# Altium footprint library Footprints.PcbLib: 111 footprints (part 3 of 7)
Each footprint in its own frame and in the unit in brackets; x right, y up, seen from the top. Pads: shape width x height; smd on the part's side, far side on the other; paste and mask are expansions set on the pad; w line width, h text height; cw(c..) or ccw(c..) is an arc to the next point about the centre after c.
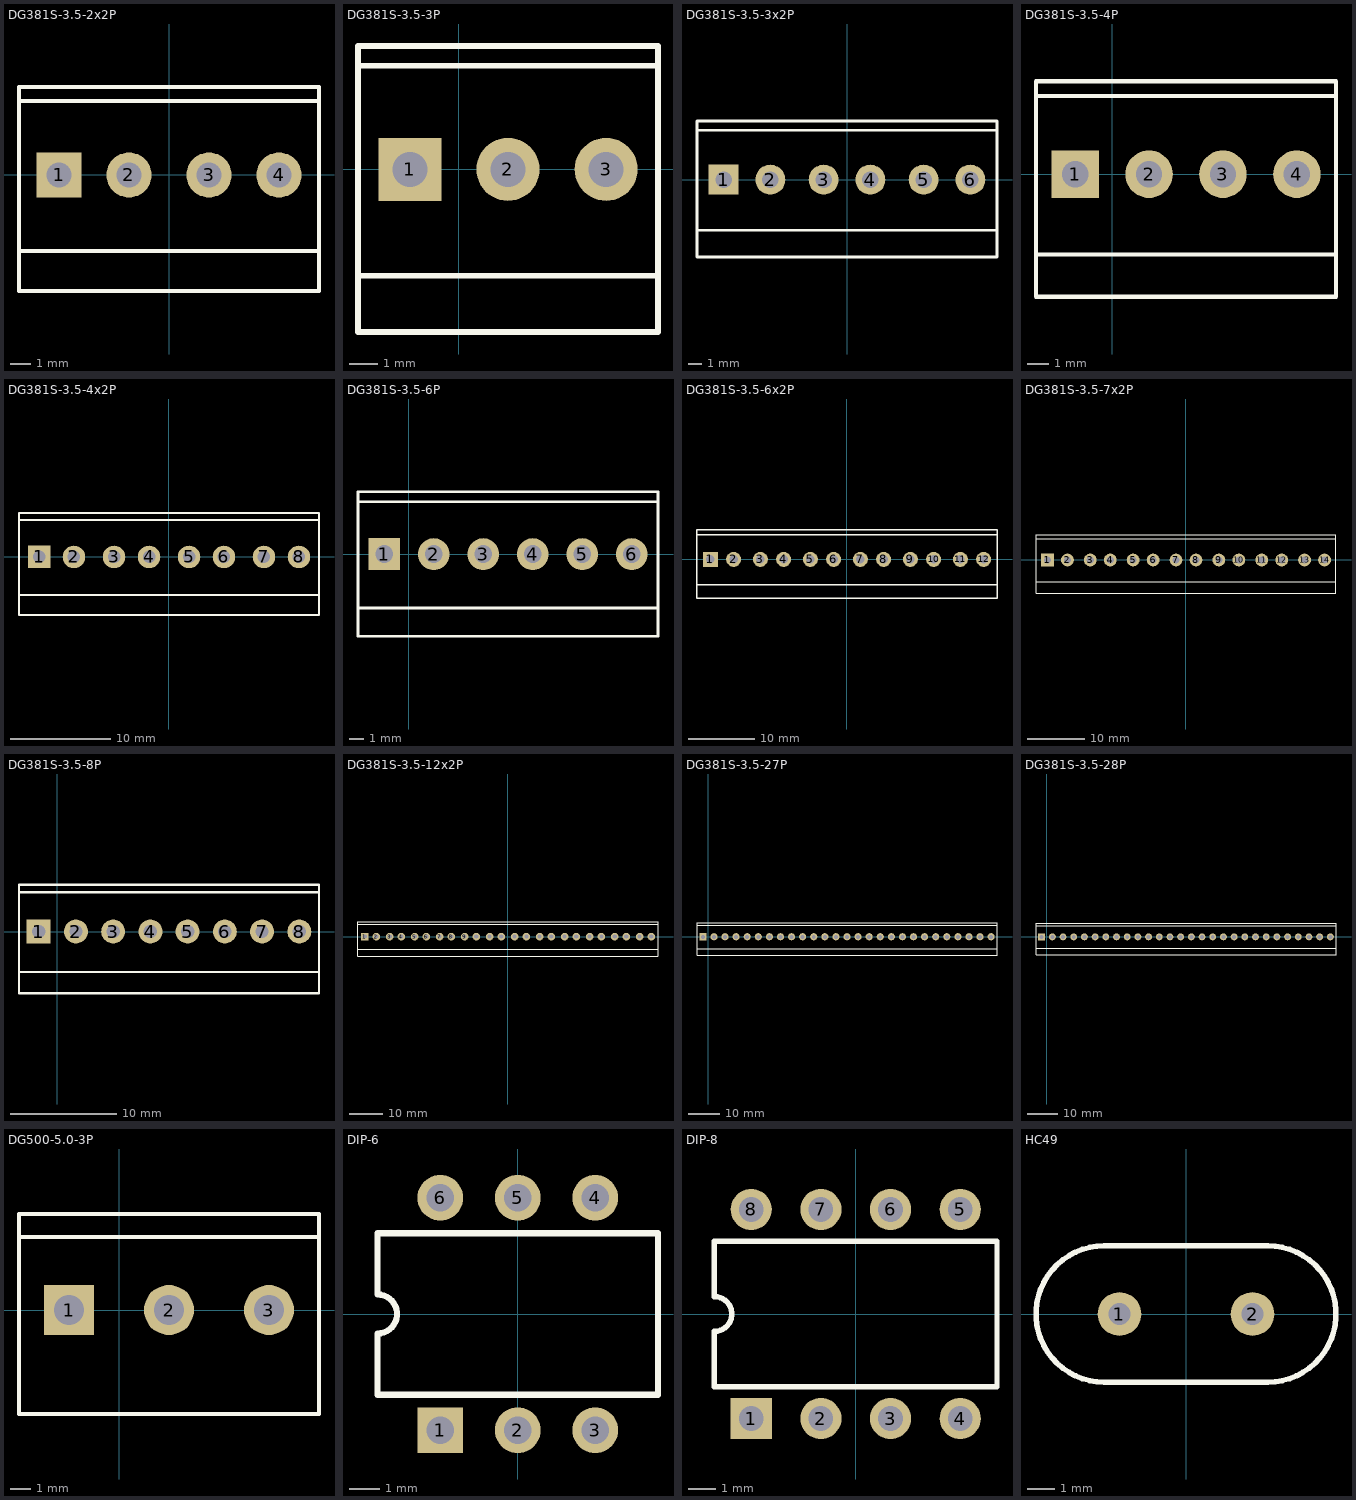
[diagram p2: the footprints below, top view; thin cyan lines are the x and y axes]

## DG381S-3.5-2x2P [mm] "Terminal block; Step 3.5"
height 9.5
pads (4):
  rect 2.25x2.25 hole 1.25: 1(-5.5,0)
  round 2.25 hole 1.25: 2(-2,0) 3(2,0) 4(5.5,0)
Top Overlay:
  lines w0.2: -7.5,-3.8 7.5,-3.8 ; -7.5,3.7 7.5,3.7 ; -7.5,-5.8 -7.5,4.4 7.5,4.4 7.5,-5.8 -7.5,-5.8
3D body: height 9.5, standoff 0, extent -7.5,-5.8 7.5,4.4

## DG381S-3.5-3P [mm] "Terminal block; Step 3.5"
height 9.5
pads (3):
  rect 2.25x2.25 hole 1.25: 1(-1.75,0)
  round 2.25 hole 1.25: 2(1.75,0) 3(5.25,0)
Top Overlay:
  lines w0.2: -3.6,-3.8 7.1,-3.8 ; -3.6,3.7 7.1,3.7 ; -3.6,-5.8 7.1,-5.8 7.1,4.4 -3.6,4.4 -3.6,-5.8
3D body: height 9.5, standoff 0, extent -3.5,-5.8 7.1,4.4

## DG381S-3.5-3x2P [mm] "Terminal block; Step 3.5"
height 9.5
pads (6):
  rect 2.25x2.25 hole 1.25: 1(-9.25,0)
  round 2.25 hole 1.25: 2(-5.75,0) 3(-1.75,0) 4(1.75,0) 5(5.75,0) 6(9.25,0)
Top Overlay:
  lines w0.2: -11.25,-3.8 11.25,-3.8 ; -11.25,3.7 11.25,3.7 ; -11.25,-5.8 11.25,-5.8 11.25,4.4 -11.25,4.4 -11.25,-5.8
3D body: height 9.5, standoff 0, extent -11.25,-5.8 11.25,4.4

## DG381S-3.5-4P [mm] "Terminal block; Step 3.5"
height 9.5
pads (4):
  rect 2.25x2.25 hole 1.25: 1(-1.75,0)
  round 2.25 hole 1.25: 2(1.75,0) 3(5.25,0) 4(8.75,0)
Top Overlay:
  lines w0.2: -3.6,-3.8 10.6,-3.8 ; -3.6,3.7 10.6,3.7 ; -3.6,-5.8 -3.6,4.4 10.6,4.4 10.6,-5.8 -3.6,-5.8
3D body: height 9.5, standoff 0, extent -3.5,-5.8 10.6,4.4

## DG381S-3.5-4x2P [mm] "Terminal block; Step 3.5"
height 9.5
pads (8):
  rect 2.25x2.25 hole 1.25: 1(-13,0)
  round 2.25 hole 1.25: 2(-9.5,0) 3(-5.5,0) 4(-2,0) 5(2,0) 6(5.5,0) 7(9.5,0) 8(13,0)
Top Overlay:
  lines w0.2: -15,-3.8 15,-3.8 ; -15,3.7 15,3.7 ; -15,-5.8 15,-5.8 15,4.4 -15,4.4 -15,-5.8
3D body: height 9.5, standoff 0, extent -15,-5.8 15,4.4

## DG381S-3.5-6P [mm] "Terminal block; Step 3.5"
height 9.5
pads (6):
  rect 2.25x2.25 hole 1.25: 1(-1.75,0)
  round 2.25 hole 1.25: 2(1.75,0) 3(5.25,0) 4(8.75,0) 5(12.25,0) 6(15.75,0)
Top Overlay:
  lines w0.2: -3.6,-3.8 17.6,-3.8 ; -3.6,3.7 17.6,3.7 ; -3.6,-5.8 17.6,-5.8 17.6,4.4 -3.6,4.4 -3.6,-5.8
3D body: height 9.5, standoff 0, extent -3.5,-5.8 17.6,4.4

## DG381S-3.5-6x2P [mm] "Terminal block; Step 3.5"
height 9.5
pads (12):
  rect 2.25x2.25 hole 1.25: 1(-20.5,0)
  round 2.25 hole 1.25: 2(-17,0) 3(-13,0) 4(-9.5,0) 5(-5.5,0) 6(-2,0) 7(2,0) 8(5.5,0) 9(9.5,0) 10(13,0) 11(17,0) 12(20.5,0)
Top Overlay:
  lines w0.2: -22.5,-3.8 22.5,-3.8 ; -22.5,3.7 22.5,3.7 ; -22.5,-5.8 22.5,-5.8 22.5,4.4 -22.5,4.4 -22.5,-5.8
3D body: height 9.5, standoff 0, extent -22.5,-5.8 22.5,4.4

## DG381S-3.5-7x2P [mm] "Terminal block; Step 3.5"
height 9.5
pads (14):
  rect 2.25x2.25 hole 1.25: 1(-24.25,0)
  round 2.25 hole 1.25: 2(-20.75,0) 3(-16.75,0) 4(-13.25,0) 5(-9.25,0) 6(-5.75,0) 7(-1.75,0) 8(1.75,0) 9(5.75,0) 10(9.25,0) 11(13.25,0) 12(16.75,0) 13(20.75,0) 14(24.25,0)
Top Overlay:
  lines w0.2: -26.25,-3.8 26.25,-3.8 ; -26.25,3.7 26.25,3.7 ; -26.25,-5.8 -26.25,4.4 26.25,4.4 26.25,-5.8 -26.25,-5.8
3D body: height 9.5, standoff 0, extent -26.25,-5.8 26.25,4.4

## DG381S-3.5-8P [mm] "Terminal block; Step 3.5"
height 9.5
pads (8):
  rect 2.25x2.25 hole 1.25: 1(-1.75,0)
  round 2.25 hole 1.25: 2(1.75,0) 3(5.25,0) 4(8.75,0) 5(12.25,0) 6(15.75,0) 7(19.25,0) 8(22.75,0)
Top Overlay:
  lines w0.2: -3.6,-3.8 24.6,-3.8 ; -3.6,3.7 24.6,3.7 ; -3.6,-5.8 -3.6,4.4 24.6,4.4 24.6,-5.8 -3.6,-5.8
3D body: height 9.5, standoff 0, extent -3.5,-5.8 24.6,4.4

## DG381S-3.5-12x2P [mm] "Terminal block; Step 3.5"
height 9.5
pads (24):
  rect 2.25x2.25 hole 1.25: 1(-43,0)
  round 2.25 hole 1.25: 2(-39.5,0) 3(-35.5,0) 4(-32,0) 5(-28,0) 6(-24.5,0) 7(-20.5,0) 8(-17,0) 9(-13,0) 10(-9.5,0) 11(-5.5,0) 12(-2,0) 13(2,0) 14(5.5,0) 15(9.5,0) 16(13,0) 17(17,0) 18(20.5,0) 19(24.5,0) 20(28,0) 21(32,0) 22(35.5,0) 23(39.5,0) 24(43,0)
Top Overlay:
  lines w0.2: -45,-3.8 45,-3.8 ; -45,3.7 45,3.7 ; -45,-5.8 -45,4.4 45,4.4 45,-5.8 -45,-5.8
3D body: height 9.5, standoff 0, extent -45,-5.8 45,4.4

## DG381S-3.5-27P [mm] "Terminal block; Step 3.5"
height 9.5
pads (27):
  rect 2.25x2.25 hole 1.25: 1(-1.75,0)
  round 2.25 hole 1.25: 2(1.75,0) 3(5.25,0) 4(8.75,0) 5(12.25,0) 6(15.75,0) 7(19.25,0) 8(22.75,0) 9(26.25,0) 10(29.75,0) 11(33.25,0) 12(36.75,0) 13(40.25,0) 14(43.75,0) 15(47.25,0) 16(50.75,0) 17(54.25,0) 18(57.75,0) 19(61.25,0) 20(64.75,0) 21(68.25,0) 22(71.75,0) 23(75.25,0) 24(78.75,0) 25(82.25,0) 26(85.75,0) 27(89.25,0)
Top Overlay:
  lines w0.2: -3.6,-3.8 91.1,-3.8 ; -3.6,3.7 91.1,3.7 ; -3.6,-5.8 -3.6,4.4 91.1,4.4 91.1,-5.8 -3.6,-5.8
3D body: height 9.5, standoff 0, extent -3.5,-5.8 91.1,4.4

## DG381S-3.5-28P [mm] "Terminal block; Step 3.5"
height 9.5
pads (28):
  rect 2.25x2.25 hole 1.25: 1(-1.75,0)
  round 2.25 hole 1.25: 2(1.75,0) 3(5.25,0) 4(8.75,0) 5(12.25,0) 6(15.75,0) 7(19.25,0) 8(22.75,0) 9(26.25,0) 10(29.75,0) 11(33.25,0) 12(36.75,0) 13(40.25,0) 14(43.75,0) 15(47.25,0) 16(50.75,0) 17(54.25,0) 18(57.75,0) 19(61.25,0) 20(64.75,0) 21(68.25,0) 22(71.75,0) 23(75.25,0) 24(78.75,0) 25(82.25,0) 26(85.75,0) 27(89.25,0) 28(92.75,0)
Top Overlay:
  lines w0.2: -3.6,-3.8 94.6,-3.8 ; -3.6,3.7 94.6,3.7 ; -3.6,-5.8 94.6,-5.8 94.6,4.4 -3.6,4.4 -3.6,-5.8
3D body: height 9.5, standoff 0, extent -3.5,-5.8 94.6,4.4

## DG500-5.0-3P [mm] "Terminal block; Step 3.5"
height 14
pads (3):
  rect 2.5x2.5 hole 1.5: 1(-2.5,0)
  round 2.5 hole 1.5: 2(2.5,0) 3(7.5,0)
Top Overlay:
  lines w0.2: -5,3.65 10,3.65 ; -5,-5.2 10,-5.2 10,4.8 -5,4.8 -5,-5.2
3D body: height 14, standoff 0, extent -5,-5.2 10,4.8

## DIP-6 [mm]
height 5.8
pads (6):
  rect 1.5x1.5 hole 0.9: 1(-2.54,-3.81)
  round 1.5 hole 0.9: 2(0,-3.81) 3(2.54,-3.81) 4(2.54,3.81) 5(0,3.81) 6(-2.54,3.81)
Top Overlay:
  lines w0.2: -4.6,-2.65 -4.6,-0.64 ccw(c-4.6,0) -4.6,0.64 -4.6,2.65 4.6,2.65 4.6,-2.65 -4.6,-2.65
3D body: height 4.25, standoff 3.75, extent 2.29,-3.81 2.788,-2.65
3D body: height 4.25, standoff 3.75, extent -0.25,-3.81 0.248,-2.65
3D body: height 4.25, standoff 3.75, extent -2.79,-3.81 -2.292,-2.65
3D body: height 5.8, standoff 2.27, extent -4.6,-2.65 4.6,2.65
3D body: height 4.25, standoff 3.75, extent -2.79,2.65 -2.292,4
3D body: height 4.25, standoff 3.75, extent -0.25,2.65 0.248,4
3D body: height 4.25, standoff 3.75, extent 2.29,2.65 2.788,4

## DIP-8 [mm] "DIP; 8 Leads; Row Spacing 7.62 mm; Pitch 2.54 mm"
height 4.58
pads (8):
  rect 1.5x1.5 hole 0.9: 1(-3.81,-3.81)
  round 1.5 hole 0.9: 2(-1.27,-3.81) 3(1.27,-3.81) 4(3.81,-3.81) 5(3.81,3.81) 6(1.27,3.81) 7(-1.27,3.81) 8(-3.81,3.81)
Top Overlay:
  lines w0.2: -5.15,-2.65 5.15,-2.65 5.15,2.65 -5.15,2.65 -5.15,0.635 cw(c-5.15,0) -5.15,-0.635 -5.15,-2.65
3D body: height 4.25, standoff 3.75, extent 3.56,-3.81 4.058,-2.65
3D body: height 4.25, standoff 3.75, extent 3.56,2.65 4.058,4
3D body: height 4.25, standoff 3.75, extent 1.02,2.65 1.518,4
3D body: height 4.25, standoff 3.75, extent -1.52,2.65 -1.022,4
3D body: height 4.25, standoff 3.75, extent -4.06,2.65 -3.562,4
3D body: height 5.8, standoff 2.27, extent -5.15,-2.65 5.15,2.65
3D body: height 4.25, standoff 3.75, extent -4.06,-3.81 -3.562,-2.65
3D body: height 4.25, standoff 3.75, extent -1.52,-3.81 -1.022,-2.65
3D body: height 4.25, standoff 3.75, extent 1.02,-3.81 1.518,-2.65

## HC49 [mm] "Crystal, Thru-Hole; 2 Leads; Body 11.0 x 5.0 mm (Dia.xH)"
height 3.5
pads (2):
  round 1.6 hole 0.8: 1(-2.44,0) 2(2.44,0)
Top Overlay:
  lines w0.2: -3,-2.5 cw(c-3,0) -3,2.5 3,2.5 cw(c3,0) 3,-2.5 -3,-2.5
3D body: height 3.5, standoff 0, extent 0.75,-2.25 5.232,2.241
3D body: height 3.5, standoff 0, extent -5.24,-2.25 -0.758,2.241
3D body: height 3.5, standoff 0, extent -3,-2.25 3,2.25
3D body: height 0.64, standoff 0, extent -3,-2.5 3,2.5
3D body: height 0.64, standoff 0, extent -5.5,-2.5 -0.52,2.49
3D body: height 0.64, standoff 0, extent 0.5,-2.5 5.48,2.49